# Altium integrated library Miscellaneous_Devices_IntLib.IntLib: 1 symbol
Pins are listed as number, name and electrical type; pins without a type are passive.

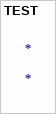
[diagram p0: symbol TEST]

## TEST
designator *
TEST